# Altium footprint library Connector-HDMI.PcbLib: 9 footprints
Each footprint in its own frame and in the unit in brackets; x right, y up, seen from the top. Pads: shape width x height; smd on the part's side, far side on the other; paste and mask are expansions set on the pad; w line width, h text height; cw(c..) or ccw(c..) is an arc to the next point about the centre after c.
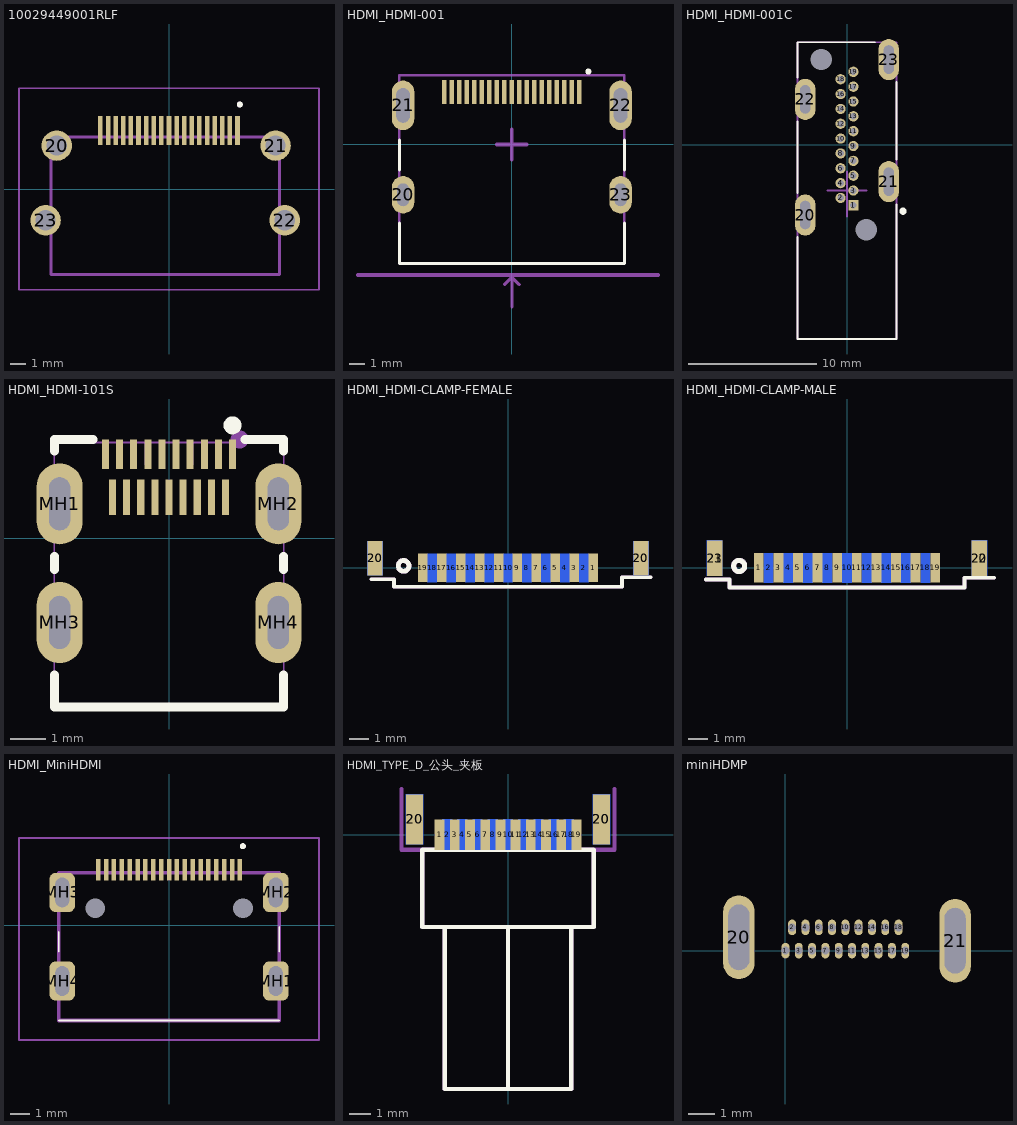
[diagram p0: the footprints below, top view; thin cyan lines are the x and y axes]

## 10029449001RLF [mm]
pads (23):
  rect 0.3x1.9 smd: 1(4.499,3.85) 2(3.999,3.85) 3(3.499,3.85) 4(2.999,3.85) 5(2.499,3.85) 6(1.999,3.85) 7(1.499,3.85) 8(0.999,3.85) 9(0.499,3.85) 10(-0.001,3.85) 11(-0.501,3.85) 12(-1.001,3.85) 13(-1.501,3.85) 14(-2.001,3.85) 15(-2.501,3.85) 16(-3.001,3.85) 17(-3.501,3.85) 18(-4.001,3.85) 19(-4.501,3.85)
  round 1.995 hole 1.33: 20(-7.366,2.85) 21(6.999,2.85) 22(7.599,-2.05) 23(-8.101,-2.05)
Top Overlay:
  lines w0.3: 4.649,5.5 cw(c4.649,5.55) 4.649,5.6 cw(c4.649,5.55) 4.649,5.5
Body Extra:
  lines w0.2: -7.751,-5.6 -7.751,3.4 7.249,3.4 7.249,-5.6 -7.751,-5.6
Top Courtyard:
  lines w0.1: -9.848,-6.6 -9.848,6.6 9.848,6.6 9.848,-6.6 -9.848,-6.6
Mechanical 29:
  lines w0.1: -9.848,-6.6 9.848,-6.6 9.848,6.6 -9.848,6.6 -9.848,-6.6
  lines w0.3: 4.649,5.5 cw(c4.649,5.55) 4.649,5.6
3D body "User Library-10029449-001LF.STEP": height 6.28, standoff -1.72, extent -8.354,-5.588 7.846,4.312

## HDMI_HDMI-001 [mm] "Standard HDMI SMT  XUNPU(讯普) HDMI-001S"
pads (23):
  rect 0.3x1.6 smd: 1(4.5,3.5) 2(4,3.5) 3(3.5,3.5) 4(3,3.5) 5(2.5,3.5) 6(2,3.5) 7(1.5,3.5) 8(1,3.5) 9(0.5,3.5) 10(0,3.5) 11(-0.5,3.5) 12(-1,3.5) 13(-1.5,3.5) 14(-2,3.5) 15(-2.5,3.5) 16(-3,3.5) 17(-3.5,3.5) 18(-4,3.5) 19(-4.5,3.5)
  oval 1.5x2.5 hole 0.8 slot 1.5 at 90 deg: 20(-7.25,-3.36) 23(7.25,-3.36)
  oval 1.5x3.3 hole 0.9 slot 2.3 at 90 deg: 21(-7.25,2.6) 22(7.25,2.6)
Top Overlay:
  lines w0.2: -7.5,-5.25 -7.5,-7.931 7.5,-7.931 7.5,-5.25 ; -7.5,-1.725 -7.5,0.3 ; 7.5,-1.725 7.5,0.3
  lines w0.3: 5.1,4.8 ccw(c5.1,4.85) 5.1,4.9 ccw(c5.1,4.85) 5.1,4.8
Top Component Outline:
  lines w0.152: -7.5,-7.931 -7.5,4.6 7.5,4.6 7.5,-7.931 -7.5,-7.931
  lines w0.2: -0.5,-9.35 0,-8.85 ; 0,-10.85 0,-8.85 ; 0.5,-9.35 0,-8.85
  lines w0.254: -10.256,-8.706 9.744,-8.706
Top Component Center:
  lines w0.254: -1,0 1,0 ; 0,-1 0,1
Top Value:
  text "'.Comment'" at -5.4,-0.481 h2.54
Top Designator:
  text "'.Designator'" at -6.9,-0.356 h2.54
3D body "HDMI-001S-1.step": height 6.12, standoff -2.4, extent -7.5,-7.955 7.5,4.195

## HDMI_HDMI-001C [mm] "Std HDMI, Flag, T/H"
pads (25):
  rect 0.8x0.8 hole 0.5: 1(0.5,-4.725)
  round 0.8 hole 0.5: 2(-0.5,-4.147) 3(0.5,-3.57) 4(-0.5,-2.992) 5(0.5,-2.415) 6(-0.5,-1.837) 7(0.5,-1.26) 8(-0.5,-0.682) 9(0.5,-0.105) 10(-0.5,0.473) 11(0.5,1.05) 12(-0.5,1.628) 13(0.5,2.205) 14(-0.5,2.783) 15(0.5,3.36) 16(-0.5,3.938) 17(0.5,4.515) 18(-0.5,5.093) 19(0.5,5.67)
  oval 1.6x3.2 hole 0.8 slot 2.2 at 90 deg: 20(-3.25,-5.475) 21(3.25,-2.875) 22(-3.25,3.525) 23(3.25,6.625)
  round 1 hole 1.65 unplated: None(-2,6.625) None(1.5,-6.625)
Top Overlay:
  circle w0.28: c4.353,-5.175 r0.14
  lines w0.127: -3.85,-7.175 -3.85,-15.125 3.85,-15.125 3.85,-4.625 ; -3.85,-3.775 -3.85,1.825 ; -3.85,5.225 -3.85,7.975 2.203,7.975 ; 3.85,-1.175 3.85,4.875
Top Component Outline:
  lines w0.127: -3.85,-15.125 -3.85,7.975 ; -3.85,-15.125 -3.85,7.975 ; -3.85,-15.125 3.85,-15.125 ; -3.85,-15.125 3.85,-15.125 ; -3.85,7.975 3.85,7.975 ; -3.85,7.975 3.85,7.975 ; 3.85,-15.125 3.85,-14.125 ; 3.85,-15.125 3.85,-14.125 ; 3.85,-14.125 3.85,7.975 ; 3.85,-14.125 3.85,7.975
Top Component Center:
  lines w0.152: -1.5,-3.575 1.5,-3.575 ; 0,-5.575 0,-2.075
Top Value:
  text "'.Comment'" at 0.581,-7.889 h2
Top Designator:
  text "'.Designator'" at 0.418,-9.295 h2
3D body "HDMI-TYPEA TH.stp": height 16.4, standoff -3.75, extent -3.87,-15.125 3.87,7.952

## HDMI_HDMI-101S [mm] "HDMI-101S XUNPU(讯普)"
pads (23):
  rect 0.2x0.84 smd paste-100 mask+0.051: 1(1.8,2.385) 3(1.4,2.385) 5(1,2.385) 7(0.6,2.385) 9(0.2,2.385) 11(-0.2,2.385) 13(-0.6,2.385) 15(-1,2.385) 17(-1.4,2.385) 19(-1.8,2.385)
  rect 0.2x1 smd paste-100 mask+0.051: 2(1.6,1.165) 4(1.2,1.165) 6(0.8,1.165) 8(0.4,1.165) 10(0,1.165) 12(-0.4,1.165) 14(-0.8,1.165) 16(-1.2,1.165) 18(-1.6,1.165)
  oval 1.3x2.3 hole 0.6 slot 1.5 at 90 deg paste+0 mask+0.051: MH1(-3.1,0.975) MH2(3.1,0.975) MH3(-3.1,-2.385) MH4(3.1,-2.385)
Top Overlay:
  circle w0.254: c1.8,3.2 r0.127
  lines w0.254: -3.25,-3.879 -3.25,-4.785 3.25,-4.785 3.25,-3.879 ; -3.25,-0.89 -3.25,-0.52 ; -3.25,2.47 -3.25,2.8 -2.146,2.8 ; 2.146,2.8 3.25,2.8 3.25,2.47 ; 3.25,-0.89 3.25,-0.52
Top Paste:
  drawing of 23 lines, arcs and shapes, not listed
Top Component Center:
  circle w0.254: c2,2.8 r0.127
Top Value:
  text "'.Comment'" at -5.4,-0.481 h2.54
Top Designator:
  text "'.Designator'" at -6.9,-0.356 h2.54
Top Assembly (Mech20):
  region: -3.25,-1.785 -2.95,-1.785 -2.95,-2.985 -3.25,-2.985
  region: 2.95,-1.785 3.25,-1.785 3.25,-2.985 2.95,-2.985
  region: 2.95,1.525 3.25,1.525 3.25,0.425 2.95,0.425
  region: -3.25,1.525 -2.95,1.525 -2.95,0.425 -3.25,0.425
  region: -1.88,2.685 -1.72,2.685 -1.72,2.085 -1.88,2.085
  region: 1.72,2.685 1.88,2.685 1.88,2.085 1.72,2.085
  region: 1.52,1.465 1.68,1.465 1.68,0.865 1.52,0.865
  region: 1.32,2.685 1.48,2.685 1.48,2.085 1.32,2.085
  region: 1.12,1.465 1.28,1.465 1.28,0.865 1.12,0.865
  region: 0.92,2.685 1.08,2.685 1.08,2.085 0.92,2.085
  region: 0.72,1.465 0.88,1.465 0.88,0.865 0.72,0.865
  region: 0.52,2.685 0.68,2.685 0.68,2.085 0.52,2.085
  region: 0.32,1.465 0.48,1.465 0.48,0.865 0.32,0.865
  region: 0.12,2.685 0.28,2.685 0.28,2.085 0.12,2.085
  region: -0.08,1.465 0.08,1.465 0.08,0.865 -0.08,0.865
  region: -0.28,2.685 -0.12,2.685 -0.12,2.085 -0.28,2.085
  region: -0.48,1.465 -0.32,1.465 -0.32,0.865 -0.48,0.865
  region: -0.68,2.685 -0.52,2.685 -0.52,2.085 -0.68,2.085
  region: -0.88,1.465 -0.72,1.465 -0.72,0.865 -0.88,0.865
  region: -1.08,2.685 -0.92,2.685 -0.92,2.085 -1.08,2.085
  region: -1.28,1.465 -1.12,1.465 -1.12,0.865 -1.28,0.865
  region: -1.48,2.685 -1.32,2.685 -1.32,2.085 -1.48,2.085
  region: -1.68,1.465 -1.52,1.465 -1.52,0.865 -1.68,0.865
  region: 3.31,2.715 3.31,2.74 3.275,2.775 3.225,2.775 3.19,2.74 3.19,2.715 3.19,2.69 3.225,2.655 3.275,2.655 3.31,2.69 3.31,2.715
  lines w0.051: -3.25,-4.785 -3.25,2.715 3.25,2.715 3.25,-4.785 -3.25,-4.785
3D body "12S-1.step": height 3, standoff -1, extent -3.25,-4.785 3.25,2.715

## HDMI_HDMI-CLAMP-FEMALE [mm] "夹板1.6mm 母头 (KH-HDMI-024-JBS)"
pads (23):
  rect 0.5x1.5 smd: 1(4.5,0) 3(3.5,0) 5(2.5,0) 7(1.5,0) 9(0.5,0) 11(-0.5,0) 13(-1.5,0) 15(-2.5,0) 17(-3.5,0) 19(-4.5,0)
  rect 0.5x1.5 smd far side: 2(4,0) 4(3,0) 6(2,0) 8(1,0) 10(0,0) 12(-1,0) 14(-2,0) 16(-3,0) 18(-4,0)
  rect 0.8x1.8 smd: 20(-7,0.5) 20(7,0.5)
  rect 0.8x1.8 smd far side: 20(-7,0.5) 20(7,0.5)
Top Overlay:
  circle w0.254: c-5.5,0.1 r0.283
  lines w0.2: -7.2,-0.6 -6,-0.6 -6,-1 6,-1 6,-0.5 7.5,-0.5
Board Outline:
  lines w0.2: -7.2,-0.6 -6,-0.6 -6,-1 6,-1 6,-0.5 7.5,-0.5
Top Value:
  text "'.Comment'" at -4.314,-0.581 h2
Top Designator:
  text "'.Designator'" at -5.72,-0.418 h2
Top Assembly (Mech20):
  circle w0.254: c-5.5,0.1 r0.283
  lines w0.2: -7.2,-0.6 -6,-0.6 -6,-1 6,-1 6,-0.5 7.5,-0.5
3D body "HDMI-001S-1.step": height 6.24, standoff -2.28, extent -7.5,-11.955 7.5,0.195

## HDMI_HDMI-CLAMP-MALE [mm] "夹板1.6mm 公头 (920-867A2021Y10100)"
pads (23):
  rect 0.5x1.5 smd: 1(-4.5,0) 3(-3.5,0) 5(-2.5,0) 7(-1.5,0) 9(-0.5,0) 11(0.5,0) 13(1.5,0) 15(2.5,0) 17(3.5,0) 19(4.5,0)
  rect 0.5x1.5 smd far side: 2(-4,0) 4(-3,0) 6(-2,0) 8(-1,0) 10(0,0) 12(1,0) 14(2,0) 16(3,0) 18(4,0)
  rect 0.8x1.8 smd: 20(6.75,0.5) 21(-6.75,0.5)
  rect 0.8x1.8 smd far side: 22(6.75,0.5) 23(-6.75,0.5)
Top Overlay:
  circle w0.254: c-5.5,0.1 r0.283
  lines w0.2: -7.2,-0.6 -6,-0.6 -6,-1 6,-1 6,-0.5 7.5,-0.5
Board Outline:
  lines w0.2: -7.2,-0.6 -6,-0.6 -6,-1 6,-1 6,-0.5 7.5,-0.5
Top Value:
  text "'.Comment'" at -4.314,-0.581 h2
Top Designator:
  text "'.Designator'" at -5.72,-0.418 h2
Top Assembly (Mech20):
  circle w0.254: c-5.5,0.1 r0.283
  lines w0.2: -7.2,-0.6 -6,-0.6 -6,-1 6,-1 6,-0.5 7.5,-0.5
3D body "920-867A2021Y10100.step": height 1.43, standoff -3.03, extent -6.95,-13.5 6.95,1.35

## HDMI_MiniHDMI [mm] "A71-05H4-111N1 (XKB Connectivity)"
pads (25):
  rect 0.23x1.1 smd: 1(3.605,2.825) 2(3.205,2.825) 3(2.805,2.825) 4(2.405,2.825) 5(2.005,2.825) 6(1.605,2.825) 7(1.205,2.825) 8(0.805,2.825) 9(0.405,2.825) 10(0.005,2.825) 11(-0.395,2.825) 12(-0.795,2.825) 13(-1.195,2.825) 14(-1.595,2.825) 15(-1.995,2.825) 16(-2.395,2.825) 17(-2.795,2.825) 18(-3.195,2.825) 19(-3.595,2.825)
  rrect50% 1.3x2 hole 1.5 slot 0.7 at 0 deg: MH1(5.425,-2.825) MH2(5.425,1.675) MH3(-5.425,1.675) MH4(-5.425,-2.825)
  round 0.5 hole 1 unplated: MH5(3.755,0.875) MH6(-3.745,0.875)
Top Overlay:
  lines w0.1: -5.6,-4.825 5.6,-4.825 -5.6,-4.825 ; -5.6,-1.325 -5.6,-0.325 -5.6,-1.325 ; 5.6,-1.325 5.6,-0.075 5.6,-1.325
  lines w0.2: 3.7,4.025 cw(c3.75,4.025) 3.8,4.025 ; 3.7,4.025 ccw(c3.75,4.025) 3.8,4.025 ; 3.7,4.025 3.8,4.025
Body Extra:
  lines w0.2: -5.6,-4.825 -5.6,2.675 5.6,2.675 5.6,-4.825 -5.6,-4.825
Bottom Courtyard:
  lines w0.1: -7.62,-5.825 -7.62,4.445 7.62,4.445 7.62,-5.825 -7.62,-5.825
Mechanical 29:
  lines w0.1: -7.62,-5.825 7.62,-5.825 7.62,4.445 -7.62,4.445 -7.62,-5.825
  lines w0.2: 3.7,4.025 3.8,4.025
3D body "A71-05H4-111N1.step": height 3.31, standoff -0.94, extent -5.6,-4.825 5.6,3.175

## HDMI_TYPE_D_公头_夹板 [mm] "夹板1mm"
pads (23):
  rect 0.45x1.4 smd: 1(-3.15,0) 3(-2.45,0) 5(-1.75,0) 7(-1.05,0) 9(-0.35,0) 11(0.35,0) 13(1.05,0) 15(1.75,0) 17(2.45,0) 19(3.15,0)
  rect 0.45x1.4 smd far side: 2(-2.8,0) 4(-2.1,0) 6(-1.4,0) 8(-0.7,0) 10(0,0) 12(0.7,0) 14(1.4,0) 16(2.1,0) 18(2.8,0)
  rect 0.8x2.3 smd: 20(-4.3,0.7) 20(4.3,0.7)
  rect 0.8x2.3 smd far side: 20(-4.3,0.7) 20(4.3,0.7)
Top Overlay:
  lines w0.2: -2.915,-4.25 -2.915,-11.7 2.915,-11.7 2.915,-4.25 ; 0,-11.7 0,-4.25 ; 3.85,-0.7 3.95,-0.7 ; 3.95,-0.7 -3.95,-0.7 -3.95,-4.25 3.95,-4.25 3.95,-0.7
Top Component Outline:
  lines w0.2: -4.9,2.1 -4.9,-0.7 4.9,-0.7 4.9,2.1 ; -2.915,-4.25 -2.915,-11.7 2.915,-11.7 2.915,-4.25 ; 0,-11.7 0,-4.25 ; 3.85,-0.7 3.95,-0.7 ; 3.95,-0.7 -3.95,-0.7 -3.95,-4.25 3.95,-4.25 3.95,-0.7
Top Value:
  text "'.Comment'" at -4.314,-0.581 h2
Top Designator:
  text "'.Designator'" at -5.72,-0.418 h2

## miniHDMP [mm]
pads (21):
  oval 0.3x0.6 hole 0.3: 1(0,0) 2(0.254,0.889) 3(0.508,0) 4(0.762,0.889) 5(1.016,0) 6(1.27,0.889) 7(1.524,0) 8(1.778,0.889) 9(2.032,0) 10(2.286,0.889) 11(2.54,0) 12(2.794,0.889) 13(3.048,0) 14(3.302,0.889) 15(3.556,0) 16(3.81,0.889) 17(4.064,0) 18(4.318,0.889) 19(4.572,0)
  oval 1.2x3.2 hole 2.5 slot 0.8 at 0 deg: 20(-1.778,0.508) 21(6.477,0.381)